# EAGLE library part TJ34063A (library dcdc)
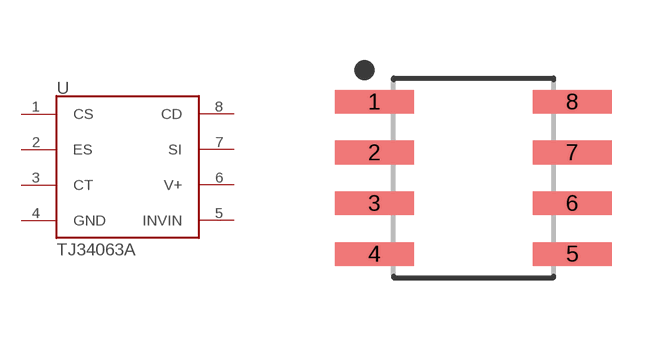
[diagram p0: symbol with the pads of SOP8; footprint SOP8]

Designator prefix -

## TJ34063A  [SOP8]
1  CS
2  ES
3  CT
4  GND
5  INVIN
6  V+
7  SI
8  CD

## Footprint SOP8 (pad centres in mm)
8-SOIC, 1.27 mm pitch, 6.00 mm span, 4.90 X 3.90 X 1.75 mm body 8-pin SOIC package with 1.27 mm pitch, 6.00 mm span with body size 4.90 X 3.90 X 1.75 mm
smd 1.968 x 0.589: 1 -2.473,1.905; 2 -2.473,0.635; 3 -2.473,-0.635; 4 -2.473,-1.905; 5 2.473,-1.905; 6 2.473,-0.635; 7 2.473,0.635; 8 2.473,1.905